# EAGLE library part AT91SAM7X512/256/128 (library atmel-arm)
AT91SAM7X512/256/128/64/321 ARM7 Processor
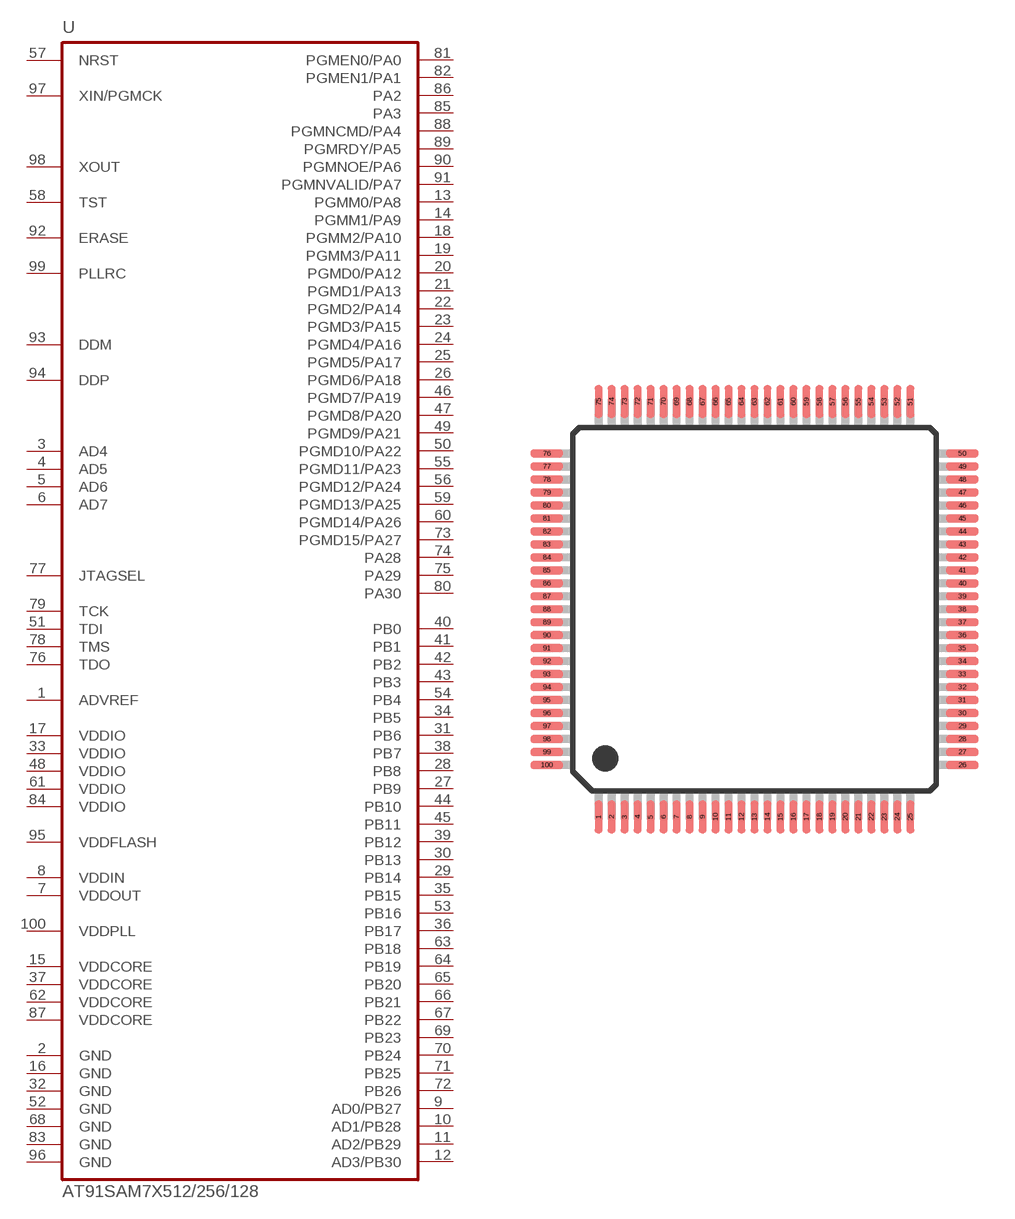
[diagram p3: symbol with the pads of LQFP100; footprint LQFP100]

Designator prefix U

## AT91SAM7X512/256/128-AU  [LQFP100]
1  ADVREF
2  GND  pwr
3  AD4
4  AD5
5  AD6
6  AD7
7  VDDOUT
8  VDDIN  pwr
9  AD0/PB27
10  AD1/PB28
11  AD2/PB29
12  AD3/PB30
13  PGMM0/PA8
14  PGMM1/PA9
15  VDDCORE
16  GND  pwr
17  VDDIO  pwr
18  PGMM2/PA10
19  PGMM3/PA11
20  PGMD0/PA12
21  PGMD1/PA13
22  PGMD2/PA14
23  PGMD3/PA15
24  PGMD4/PA16
25  PGMD5/PA17
26  PGMD6/PA18
27  PB9
28  PB8
29  PB14
30  PB13
31  PB6
32  GND  pwr
33  VDDIO  pwr
34  PB5
35  PB15
36  PB17
37  VDDCORE
38  PB7
39  PB12
40  PB0
41  PB1
42  PB2
43  PB3
44  PB10
45  PB11
46  PGMD7/PA19
47  PGMD8/PA20
48  VDDIO  pwr
49  PGMD9/PA21
50  PGMD10/PA22
51  TDI
52  GND  pwr
53  PB16
54  PB4
55  PGMD11/PA23
56  PGMD12/PA24
57  NRST
58  TST
59  PGMD13/PA25
60  PGMD14/PA26
61  VDDIO  pwr
62  VDDCORE
63  PB18
64  PB19
65  PB20
66  PB21
67  PB22
68  GND  pwr
69  PB23
70  PB24
71  PB25
72  PB26
73  PGMD15/PA27
74  PA28
75  PA29
76  TDO
77  JTAGSEL
78  TMS
79  TCK
80  PA30
81  PGMEN0/PA0
82  PGMEN1/PA1
83  GND  pwr
84  VDDIO  pwr
85  PA3
86  PA2
87  VDDCORE
88  PGMNCMD/PA4
89  PGMRDY/PA5
90  PGMNOE/PA6
91  PGMNVALID/PA7
92  ERASE
93  DDM
94  DDP
95  VDDFLASH  pwr
96  GND  pwr
97  XIN/PGMCK
98  XOUT
99  PLLRC
100  VDDPLL

## Footprint LQFP100 (pad centres in mm)
LQFP100
smd 0.3 x 1.25: 1 -6,-8; 2 -5.5,-8; 3 -5,-8; 4 -4.5,-8; 5 -4,-8; 6 -3.5,-8; 7 -3,-8; 8 -2.5,-8; 9 -2,-8; 10 -1.5,-8; 11 -1,-8; 12 -0.5,-8; 13 0,-8; 14 0.5,-8; 15 1,-8; 16 1.5,-8; 17 2,-8; 18 2.5,-8; 19 3,-8; 20 3.5,-8; 21 4,-8; 22 4.5,-8; 23 5,-8; 24 5.5,-8; 25 6,-8; 51 6,8; 52 5.5,8; 53 5,8; 54 4.5,8; 55 4,8; 56 3.5,8; 57 3,8; 58 2.5,8; 59 2,8; 60 1.5,8; 61 1,8; 62 0.5,8; 63 0,8; 64 -0.5,8; 65 -1,8; 66 -1.5,8; 67 -2,8; 68 -2.5,8; 69 -3,8; 70 -3.5,8; 71 -4,8; 72 -4.5,8; 73 -5,8; 74 -5.5,8; 75 -6,8
smd 1.25 x 0.3: 26 8,-6; 27 8,-5.5; 28 8,-5; 29 8,-4.5; 30 8,-4; 31 8,-3.5; 32 8,-3; 33 8,-2.5; 34 8,-2; 35 8,-1.5; 36 8,-1; 37 8,-0.5; 38 8,0; 39 8,0.5; 40 8,1; 41 8,1.5; 42 8,2; 43 8,2.5; 44 8,3; 45 8,3.5; 46 8,4; 47 8,4.5; 48 8,5; 49 8,5.5; 50 8,6; 76 -8,6; 77 -8,5.5; 78 -8,5; 79 -8,4.5; 80 -8,4; 81 -8,3.5; 82 -8,3; 83 -8,2.5; 84 -8,2; 85 -8,1.5; 86 -8,1; 87 -8,0.5; 88 -8,0; 89 -8,-0.5; 90 -8,-1; 91 -8,-1.5; 92 -8,-2; 93 -8,-2.5; 94 -8,-3; 95 -8,-3.5; 96 -8,-4; 97 -8,-4.5; 98 -8,-5; 99 -8,-5.5; 100 -8,-6